# Altium footprint library Zocalos.PcbLib: 1 footprints
Each footprint in its own frame and in the unit in brackets; x right, y up, seen from the top. Pads: shape width x height; smd on the part's side, far side on the other; paste and mask are expansions set on the pad; w line width, h text height; cw(c..) or ccw(c..) is an arc to the next point about the centre after c.
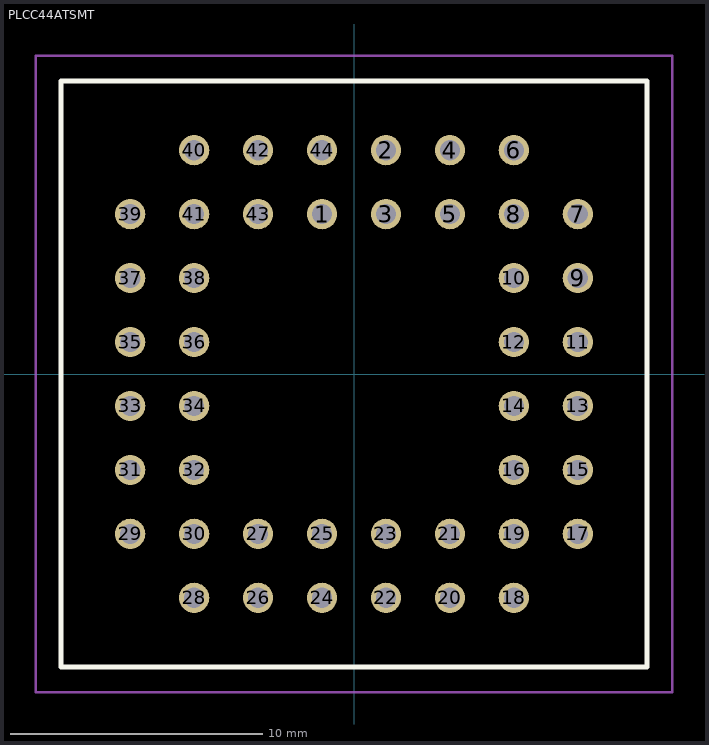
[diagram p0: the footprint, top view; thin cyan lines are the x and y axes]

## PLCC44ATSMT [mm]
pads (44):
  round 1.2 hole 0.8 unplated: 1(-1.27,6.35) 2(1.27,8.89) 3(1.27,6.35) 4(3.81,8.89) 5(3.81,6.35) 6(6.35,8.89) 7(8.89,6.35) 8(6.35,6.35) 9(8.89,3.81) 10(6.35,3.81) 11(8.89,1.27) 12(6.35,1.27) 13(8.89,-1.27) 14(6.35,-1.27) 15(8.89,-3.81) 16(6.35,-3.81) 17(8.89,-6.35) 18(6.35,-8.89) 19(6.35,-6.35) 20(3.81,-8.89) 21(3.81,-6.35) 22(1.27,-8.89) 23(1.27,-6.35) 24(-1.27,-8.89) 25(-1.27,-6.35) 26(-3.81,-8.89) 27(-3.81,-6.35) 28(-6.35,-8.89) 29(-8.89,-6.35) 30(-6.35,-6.35) 31(-8.89,-3.81) 32(-6.35,-3.81) 33(-8.89,-1.27) 34(-6.35,-1.27) 35(-8.89,1.27) 36(-6.35,1.27) 37(-8.89,3.81) 38(-6.35,3.81) 39(-8.89,6.35) 40(-6.35,8.89) 41(-6.35,6.35) 42(-3.81,8.89) 43(-3.81,6.35) 44(-1.27,8.89)
Top Overlay:
  lines w0.2: -11.64,-11.64 -11.64,11.64 11.64,11.64 11.64,-11.64 -11.64,-11.64
Mechanical 13:
  lines w0.1: -11.64,-11.64 -11.64,11.64 11.64,11.64 11.64,-11.64 -11.64,-11.64
Mechanical 15:
  lines w0.1: -12.64,-12.64 -12.64,12.64 12.64,12.64 12.64,-12.64 -12.64,-12.64
3D body "zocalo PLCC 44pines.stp": height 8, standoff -3.35, extent -11.75,-11.75 11.75,11.75